# Altium footprint library NKK-SWITCHES_JS0204AP4-S.PcbLib: 1 footprints
Each footprint in its own frame and in the unit in brackets; x right, y up, seen from the top. Pads: shape width x height; smd on the part's side, far side on the other; paste and mask are expansions set on the pad; w line width, h text height; cw(c..) or ccw(c..) is an arc to the next point about the centre after c.
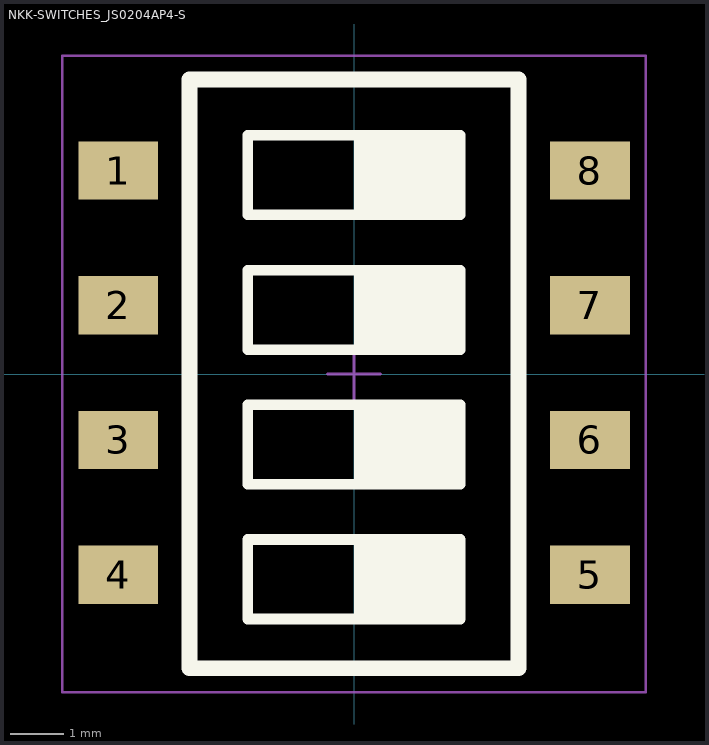
[diagram p0: the footprint, top view; thin cyan lines are the x and y axes]

## NKK-SWITCHES_JS0204AP4-S [mm] "NKK-SWITCHES_JS0204AP4-S"
height 3.94
pads (8):
  rect 1.5x1.1 smd: 1(-4.45,3.837) 2(-4.45,1.297) 3(-4.45,-1.243) 4(-4.45,-3.783) 5(4.45,-3.783) 6(4.45,-1.243) 7(4.45,1.297) 8(4.45,3.837)
Top Overlay:
  rectangle: 0,3 2,4.5
  rectangle: 0,0.46 2,1.96
  rectangle: 0,-2.08 2,-0.58
  rectangle: 0,-4.62 2,-3.12
  lines w0.2: -2,-4.62 0,-4.62 2,-4.62 2,-3.12 0,-3.12 -2,-3.12 -2,-4.62 ; -2,-2.08 0,-2.08 2,-2.08 2,-0.58 0,-0.58 -2,-0.58 -2,-2.08 ; -2,0.46 0,0.46 2,0.46 2,1.96 0,1.96 -2,1.96 -2,0.46 ; -2,3 0,3 2,3 2,4.5 0,4.5 -2,4.5 -2,3
  lines w0.3: -3.1,-5.549 3.1,-5.549 3.1,5.551 -3.1,5.551 -3.1,-5.549
Top 3D Body:
  lines w0.1: -3.1,-5.549 -3.1,5.551 3.1,5.551 3.1,-5.549 -3.1,-5.549
Top Courtyard (Mech15):
  lines w0.05: -0.5,0 0.5,0 ; 0,-0.5 0,0.5 ; -5.5,-6 5.5,-6 5.5,6 -5.5,6 -5.5,-6
3D body "NKK-SWITCHES_JS0204AP4-S.step": height 4.27, standoff 0.01, extent -4.9,-5.551 4.9,5.551